# Altium integrated library Maxim Sensors.IntLib: 1171 symbols (part 26 of 61)
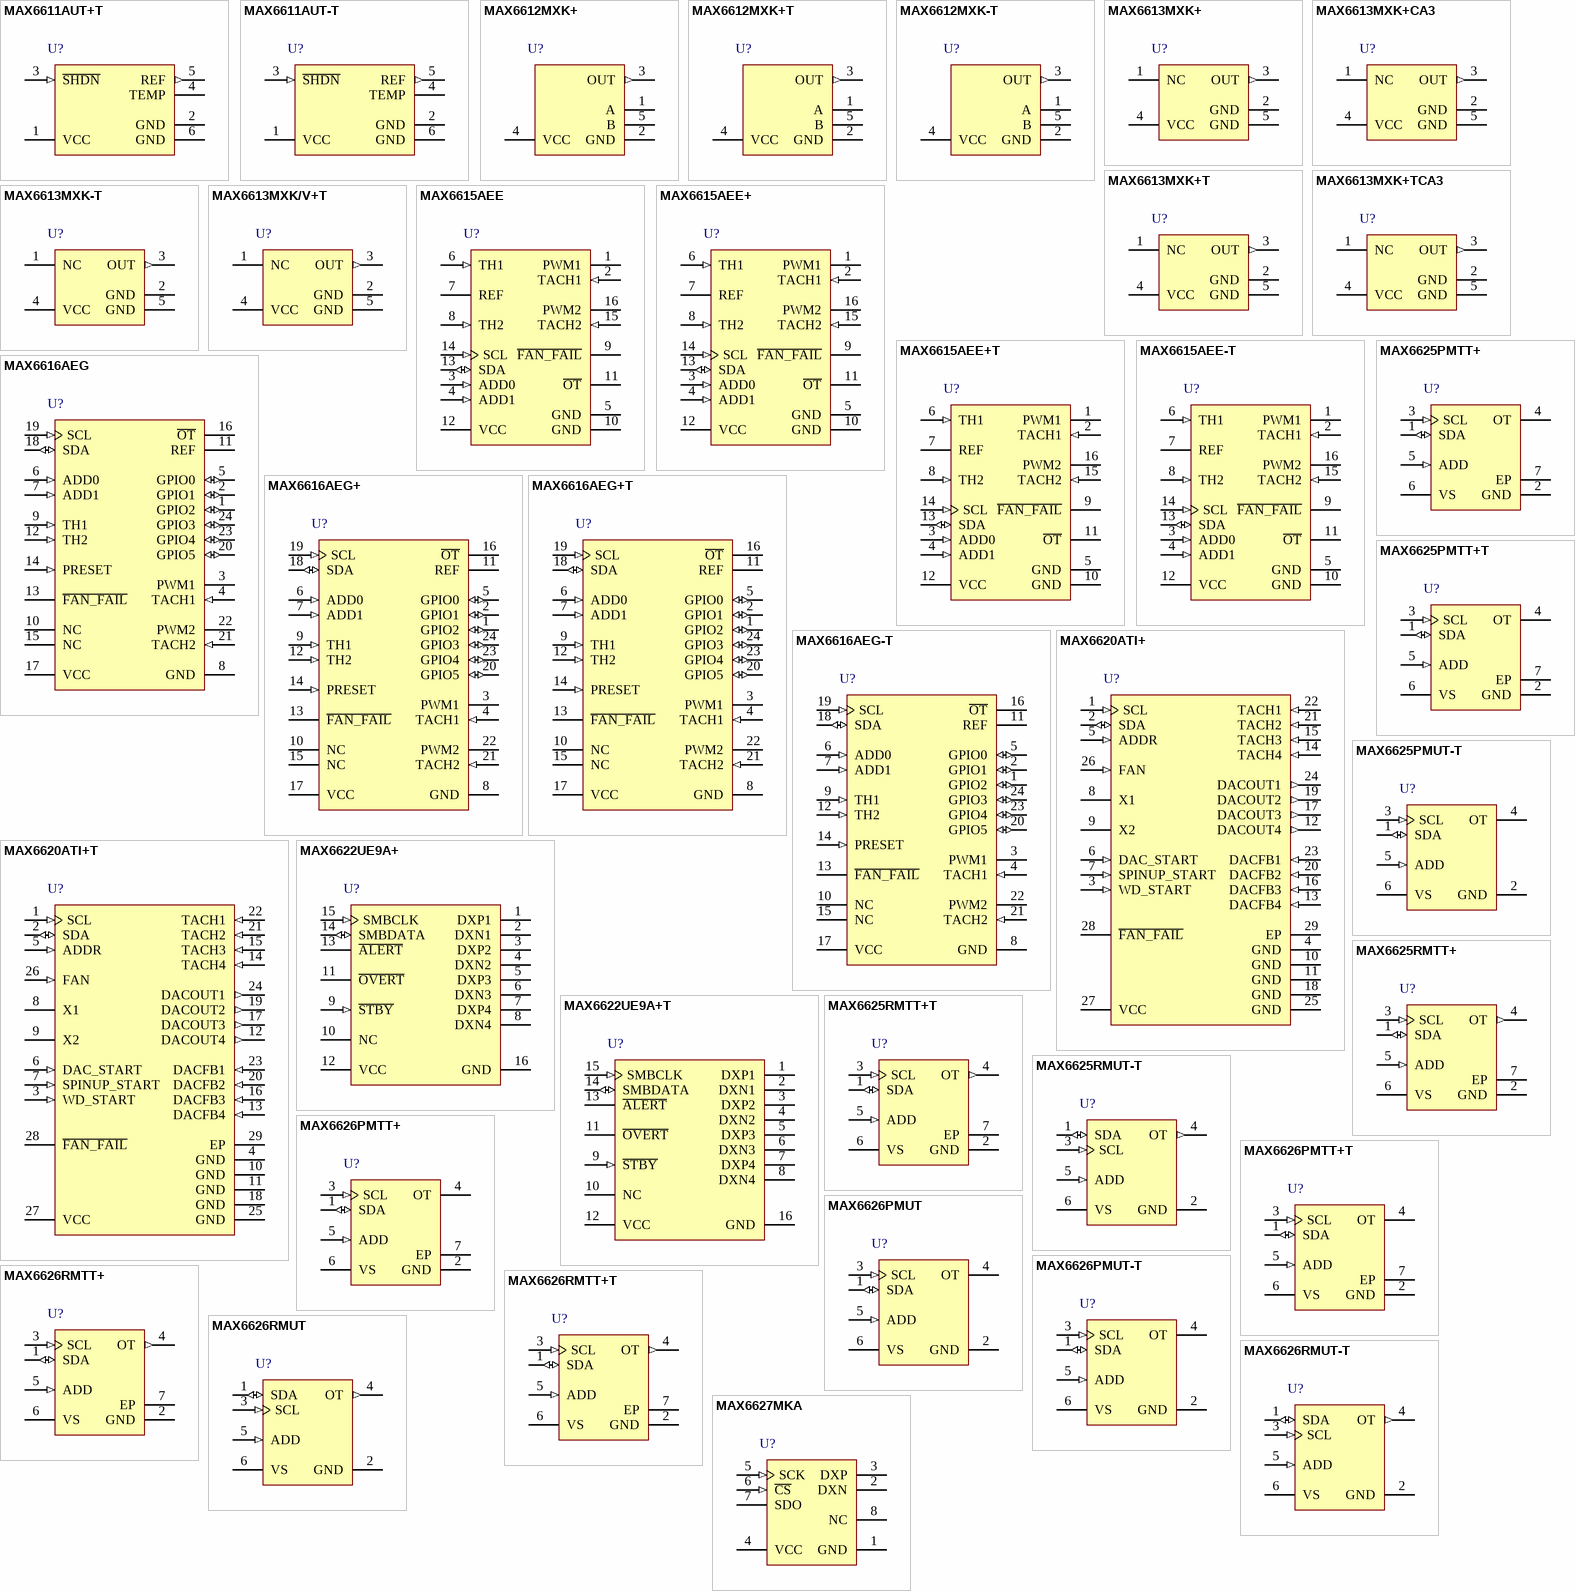
[diagram p58: symbols MAX6611AUT+T to MAX6627MKA]

## MAX6616AEG+
designator U?
Dual-Channel Temperature Monitors and Fan-Speed Controller with Thermistor Inputs and 6 GPIOs, -40 to 125 degC, 24-Pin SOP (E24+1), Pb-Free; Generic Part Number: MAX6616; PartNumber: MAX6616AEG+; Fan Cntrl.: PWM; Fan Controller Functions: Fan Failure Detector; Interface: 2-Wire/I2C/SMBus; DatasheetVersion: Rev. 2; PackageVersion: Rev. K, 04/2012; PackageReference: E24+1; PackageDescription: 24-Pin Quarter Small-Outline Package, Body 3.9 x 8.65 mm, Pitch 0.635 mm; Supplier 1: Digi-Key; Supplier Part Number 1: MAX6616AEG+-ND; Supplier 2: Newark; Supplier Part Number 2: 79R3190; Supplier 3: Mouser; Supplier Part Number 3: 700-MAX6616AEG+; Mounting Technology: Surface Mount; Code_JEDEC: MO-137; ComponentLink1Description: Manufacturer URL; ComponentLink1URL: http://www.maximintegrated.com/; ComponentLink2Description: Datasheet; ComponentLink2URL: http://datasheets.maximintegrated.com/en/ds/MAX6615-MAX6616.pdf; ComponentLink3Description: Package Specification; ComponentLink3URL: http://pdfserv.maximintegrated.com/package_dwgs/21-0055.PDF
footprint MAXM-E24+1_N (SOP, 24-Leads, Body 8.65x3.9mm, Pitch 0.635mm, IPC Medium Density)
footprint MAXM-E24+1_L (SOP, 24-Leads, Body 8.65x3.9mm, Pitch 0.635mm, IPC High Density)
footprint MAXM-E24+1_M (SOP, 24-Leads, Body 8.65x3.9mm, Pitch 0.635mm, IPC Low Density)
pins: 1 GPIO2 (io) "Active-Low, Open-Drain GPIOs. Can be pulled up to 5.5V regardless of VCC.", 2 GPIO1 (io) "Active-Low, Open-Drain GPIOs. Can be pulled up to 5.5V regardless of VCC.", 3 PWM1 (oc) "Fan Driver Output 1. The pullup resistor can be connected to a supply voltage as high as 12V, regardless of the supply voltage. See the PWM Output section for configuration.", 4 TACH1 (in) "Fan Tachometer Input. Accepts logic-level signal from fan’s tachometer output. Can be connected to a supply voltage as high as 12V, regardless of the supply voltage.", 5 GPIO0 (io) "Active-Low, Open-Drain GPIOs. Can be pulled up to 5.5V regardless of VCC.", 6 ADD0 (in) "SMBus Slave Address Selection", 7 ADD1 (in) "SMBus Slave Address Selection", 8 GND (power) "Ground.", 9 TH1 (in) "External Thermistor Input 1. Connect a thermistor in series with a fixed resistor between REF and ground.", 10 NC "No Connection", 11 REF (hiz) "Reference Voltage Output. Provides 1V during measurements. High impedance when not measuring.", 12 TH2 (in) "External Thermistor Input 2. Connect a thermistor in series with a fixed resistor between REF and ground.", 13 ~{FAN_FAIL} (hiz) "Fan-Failure Output. Asserts low when either fan fails. Can be pulled up as high as 5.5V regardless of VCC. High impedance when VCC = 0V.", 14 PRESET (in) "Connect to GND or VCC to set POR state of the GPIO0.", 15 NC "No Connection", 16 ~{OT} (hiz) "Overtemperature Output. Active low, open drain. Typically used for system shutdown or clock throttling. Can be pulled up as high as 5.5V regardless of VCC. High impedance when VCC = 0V.", 17 VCC (power) "Power Supply. 3.3V nominal. Bypass with a 0.1uF capacitor to GND.", 18 SDA (io) "SMBus Serial-Data Input/Output. Pull up with a 10k ohm resistor. Can be pulled up as high as 5.5V regardless of VCC. High impedance when VCC = 0V.", 19 SCL (in) "SMBus Serial-Clock Input. Pull up with a 10k ohm resistor. Can be pulled up as high as 5.5V regardless of VCC. High impedance when VCC = 0V.", 20 GPIO5 (io) "Active-Low, Open-Drain GPIOs. Can be pulled up to 5.5V regardless of VCC.", 21 TACH2 (in) "Fan Tachometer Input. Accepts logic-level signal from fan’s tachometer output. Can be connected to a supply voltage as high as 12V, regardless of the supply voltage.", 22 PWM2 (oc) "Fan Driver Output 2. The pullup resistor can be connected to a supply voltage as high as 12V, regardless of the supply voltage. See the PWM Output section for configuration.", 23 GPIO4 (io) "Active-Low, Open-Drain GPIOs. Can be pulled up to 5.5V regardless of VCC.", 24 GPIO3 (io) "Active-Low, Open-Drain GPIOs. Can be pulled up to 5.5V regardless of VCC."

## MAX6616AEG+T
designator U?
Dual-Channel Temperature Monitors and Fan-Speed Controller with Thermistor Inputs and 6 GPIOs, -40 to 125 degC, 24-Pin SOP (E24+1), Pb-Free, Tape and Reel; Generic Part Number: MAX6616; PartNumber: MAX6616AEG+T; Fan Cntrl.: PWM; Fan Controller Functions: Fan Failure Detector; Interface: 2-Wire/I2C/SMBus; DatasheetVersion: Rev. 2; PackageVersion: Rev. K, 04/2012; PackageReference: E24+1; PackageDescription: 24-Pin Quarter Small-Outline Package, Body 3.9 x 8.65 mm, Pitch 0.635 mm; Supplier 1: Digi-Key; Supplier Part Number 1: MAX6616AEG+T-ND; Supplier 2: Mouser; Supplier Part Number 2: 700-MAX6616AEG+T; Packing: Tape and Reel; Mounting Technology: Surface Mount; Code_JEDEC: MO-137; ComponentLink1Description: Manufacturer URL; ComponentLink1URL: http://www.maximintegrated.com/; ComponentLink2Description: Datasheet; ComponentLink2URL: http://datasheets.maximintegrated.com/en/ds/MAX6615-MAX6616.pdf; ComponentLink3Description: Package Specification; ComponentLink3URL: http://pdfserv.maximintegrated.com/package_dwgs/21-0055.PDF
footprint MAXM-E24+1_N (SOP, 24-Leads, Body 8.65x3.9mm, Pitch 0.635mm, IPC Medium Density)
footprint MAXM-E24+1_L (SOP, 24-Leads, Body 8.65x3.9mm, Pitch 0.635mm, IPC High Density)
footprint MAXM-E24+1_M (SOP, 24-Leads, Body 8.65x3.9mm, Pitch 0.635mm, IPC Low Density)
pins: 1 GPIO2 (io) "Active-Low, Open-Drain GPIOs. Can be pulled up to 5.5V regardless of VCC.", 2 GPIO1 (io) "Active-Low, Open-Drain GPIOs. Can be pulled up to 5.5V regardless of VCC.", 3 PWM1 (oc) "Fan Driver Output 1. The pullup resistor can be connected to a supply voltage as high as 12V, regardless of the supply voltage. See the PWM Output section for configuration.", 4 TACH1 (in) "Fan Tachometer Input. Accepts logic-level signal from fan’s tachometer output. Can be connected to a supply voltage as high as 12V, regardless of the supply voltage.", 5 GPIO0 (io) "Active-Low, Open-Drain GPIOs. Can be pulled up to 5.5V regardless of VCC.", 6 ADD0 (in) "SMBus Slave Address Selection", 7 ADD1 (in) "SMBus Slave Address Selection", 8 GND (power) "Ground.", 9 TH1 (in) "External Thermistor Input 1. Connect a thermistor in series with a fixed resistor between REF and ground.", 10 NC "No Connection", 11 REF (hiz) "Reference Voltage Output. Provides 1V during measurements. High impedance when not measuring.", 12 TH2 (in) "External Thermistor Input 2. Connect a thermistor in series with a fixed resistor between REF and ground.", 13 ~{FAN_FAIL} (hiz) "Fan-Failure Output. Asserts low when either fan fails. Can be pulled up as high as 5.5V regardless of VCC. High impedance when VCC = 0V.", 14 PRESET (in) "Connect to GND or VCC to set POR state of the GPIO0.", 15 NC "No Connection", 16 ~{OT} (hiz) "Overtemperature Output. Active low, open drain. Typically used for system shutdown or clock throttling. Can be pulled up as high as 5.5V regardless of VCC. High impedance when VCC = 0V.", 17 VCC (power) "Power Supply. 3.3V nominal. Bypass with a 0.1uF capacitor to GND.", 18 SDA (io) "SMBus Serial-Data Input/Output. Pull up with a 10k ohm resistor. Can be pulled up as high as 5.5V regardless of VCC. High impedance when VCC = 0V.", 19 SCL (in) "SMBus Serial-Clock Input. Pull up with a 10k ohm resistor. Can be pulled up as high as 5.5V regardless of VCC. High impedance when VCC = 0V.", 20 GPIO5 (io) "Active-Low, Open-Drain GPIOs. Can be pulled up to 5.5V regardless of VCC.", 21 TACH2 (in) "Fan Tachometer Input. Accepts logic-level signal from fan’s tachometer output. Can be connected to a supply voltage as high as 12V, regardless of the supply voltage.", 22 PWM2 (oc) "Fan Driver Output 2. The pullup resistor can be connected to a supply voltage as high as 12V, regardless of the supply voltage. See the PWM Output section for configuration.", 23 GPIO4 (io) "Active-Low, Open-Drain GPIOs. Can be pulled up to 5.5V regardless of VCC.", 24 GPIO3 (io) "Active-Low, Open-Drain GPIOs. Can be pulled up to 5.5V regardless of VCC."

## MAX6616AEG-T
designator U?
Dual-Channel Temperature Monitors and Fan-Speed Controller with Thermistor Inputs and 6 GPIOs, -40 to 125 degC, 24-Pin SOP (E24-1), Tape and Reel; Generic Part Number: MAX6616; PartNumber: MAX6616AEG-T; Fan Cntrl.: PWM; Fan Controller Functions: Fan Failure Detector; Interface: 2-Wire/I2C/SMBus; DatasheetVersion: Rev. 2; PackageVersion: Rev. K, 04/2012; PackageReference: E24-1; PackageDescription: 24-Pin Quarter Small-Outline Package, Body 3.9 x 8.65 mm, Pitch 0.635 mm; Supplier 1: Digi-Key; Supplier Part Number 1: MAX6616AEG-T-ND; Supplier 2: Mouser; Supplier Part Number 2: 700-MAX6616AEG-T-; Packing: Tape and Reel; Mounting Technology: Surface Mount; Code_JEDEC: MO-137; ComponentLink1Description: Manufacturer URL; ComponentLink1URL: http://www.maximintegrated.com/; ComponentLink2Description: Datasheet; ComponentLink2URL: http://datasheets.maximintegrated.com/en/ds/MAX6615-MAX6616.pdf; ComponentLink3Description: Package Specification; ComponentLink3URL: http://pdfserv.maximintegrated.com/package_dwgs/21-0055.PDF
footprint MAXM-E24-1_N (SOP, 24-Leads, Body 8.65x3.9mm, Pitch 0.635mm, IPC Medium Density)
footprint MAXM-E24-1_L (SOP, 24-Leads, Body 8.65x3.9mm, Pitch 0.635mm, IPC High Density)
footprint MAXM-E24-1_M (SOP, 24-Leads, Body 8.65x3.9mm, Pitch 0.635mm, IPC Low Density)
pins: 1 GPIO2 (io) "Active-Low, Open-Drain GPIOs. Can be pulled up to 5.5V regardless of VCC.", 2 GPIO1 (io) "Active-Low, Open-Drain GPIOs. Can be pulled up to 5.5V regardless of VCC.", 3 PWM1 (oc) "Fan Driver Output 1. The pullup resistor can be connected to a supply voltage as high as 12V, regardless of the supply voltage. See the PWM Output section for configuration.", 4 TACH1 (in) "Fan Tachometer Input. Accepts logic-level signal from fan’s tachometer output. Can be connected to a supply voltage as high as 12V, regardless of the supply voltage.", 5 GPIO0 (io) "Active-Low, Open-Drain GPIOs. Can be pulled up to 5.5V regardless of VCC.", 6 ADD0 (in) "SMBus Slave Address Selection", 7 ADD1 (in) "SMBus Slave Address Selection", 8 GND (power) "Ground.", 9 TH1 (in) "External Thermistor Input 1. Connect a thermistor in series with a fixed resistor between REF and ground.", 10 NC "No Connection", 11 REF (hiz) "Reference Voltage Output. Provides 1V during measurements. High impedance when not measuring.", 12 TH2 (in) "External Thermistor Input 2. Connect a thermistor in series with a fixed resistor between REF and ground.", 13 ~{FAN_FAIL} (hiz) "Fan-Failure Output. Asserts low when either fan fails. Can be pulled up as high as 5.5V regardless of VCC. High impedance when VCC = 0V.", 14 PRESET (in) "Connect to GND or VCC to set POR state of the GPIO0.", 15 NC "No Connection", 16 ~{OT} (hiz) "Overtemperature Output. Active low, open drain. Typically used for system shutdown or clock throttling. Can be pulled up as high as 5.5V regardless of VCC. High impedance when VCC = 0V.", 17 VCC (power) "Power Supply. 3.3V nominal. Bypass with a 0.1uF capacitor to GND.", 18 SDA (io) "SMBus Serial-Data Input/Output. Pull up with a 10k ohm resistor. Can be pulled up as high as 5.5V regardless of VCC. High impedance when VCC = 0V.", 19 SCL (in) "SMBus Serial-Clock Input. Pull up with a 10k ohm resistor. Can be pulled up as high as 5.5V regardless of VCC. High impedance when VCC = 0V.", 20 GPIO5 (io) "Active-Low, Open-Drain GPIOs. Can be pulled up to 5.5V regardless of VCC.", 21 TACH2 (in) "Fan Tachometer Input. Accepts logic-level signal from fan’s tachometer output. Can be connected to a supply voltage as high as 12V, regardless of the supply voltage.", 22 PWM2 (oc) "Fan Driver Output 2. The pullup resistor can be connected to a supply voltage as high as 12V, regardless of the supply voltage. See the PWM Output section for configuration.", 23 GPIO4 (io) "Active-Low, Open-Drain GPIOs. Can be pulled up to 5.5V regardless of VCC.", 24 GPIO3 (io) "Active-Low, Open-Drain GPIOs. Can be pulled up to 5.5V regardless of VCC."

## MAX6620ATI+
designator U?
4-Channel Linear Fan-Speed Controller, -40 to 125 degC, 28-Pin QFN (T2855+8), Pb-Free; Generic Part Number: MAX6620; PartNumber: MAX6620ATI+; Fan Controller Functions: Fan Failure Detector; Interface: 2-Wire/I2C/SMBus; DatasheetVersion: Rev. 0; PackageVersion: Rev. Q, 09/2011; PackageReference: T2855+8; PackageDescription: 28-Pin Thin Quad Flatpack, No Leads, Body 5 x 5 mm, Pitch 0.5 mm; Supplier 1: Digi-Key; Supplier Part Number 1: MAX6620ATI+-ND; Supplier 2: Mouser; Supplier Part Number 2: 700-MAX6620ATI; Fan Cntrl.: Linear; Mounting Technology: Surface Mount; Code_JEDEC: MO-220; ComponentLink1Description: Manufacturer URL; ComponentLink1URL: http://www.maximintegrated.com/; ComponentLink2Description: Datasheet; ComponentLink2URL: http://datasheets.maximintegrated.com/en/ds/MAX6620.pdf; ComponentLink3Description: Package Specification; ComponentLink3URL: http://pdfserv.maximintegrated.com/package_dwgs/21-0140.PDF
footprint MAXM-T2855+8_N (QFN, 28-Leads, Body 5x5mm, Pitch 0.5mm, Thermal Pad 3.25x3.25mm, IPC Medium Density)
footprint MAXM-T2855+8_L (QFN, 28-Leads, Body 5x5mm, Pitch 0.5mm, Thermal Pad 3.25x3.25mm, IPC High Density)
footprint MAXM-T2855+8_M (QFN, 28-Leads, Body 5x5mm, Pitch 0.5mm, Thermal Pad 3.25x3.25mm, IPC Low Density)
pins: 1 SCL (in) "I2C Serial-Clock Input. Can be pulled up to 5.5V regardless of VCC. Open circuit when VCC = 0V.", 2 SDA (io) "Open-Drain, I2C Serial-Data Input/Output. Can be pulled up to 5.5V regardless of VCC. Open circuit when VCC = 0V.", 3 WD_START (in) "Startup Watchdog Set Input. This input is sampled when power is first applied and sets the initial I2C watchdog behavior. When connected to GND, the watchdog function is disabled. When connected to VCC, the MAX6620 monitors (See Datasheet)", 4 GND (power) "Ground", 5 ADDR (in) "I2C Address Set Input. This input is sampled when power is first applied and sets the I2C slave address. When connected to GND, the slave address will be 0x50. When unconnected, the slave address will be 0x52. When connected (See Datasheet)", 6 DAC_START (in) "Startup Fan Drive DAC Set Input. This input is sampled when power is first applied and sets the power-up value for the fan drive voltage. When connected to GND, the fan drive voltage will be 0%. When unconnected, the fan (See Datasheet)", 7 SPINUP_START (in) "Startup Spin-Up Set Input. This input is sampled when power is first applied and sets the initial spin-up behavior. When connected to GND, spin-up is disabled. When connected to VCC at power-up, the fan is driven with a (See Datasheet)", 8 X1 "Crystal Oscillator Inputs. Connections for a standard 32.768kHz quartz crystal. The internal oscillator circuitry is designed for operation with a crystal having a specified load capacitance (CL) of 12pF. Connect an external (See Datasheet)", 9 X2 "Crystal Oscillator Inputs. Connections for a standard 32.768kHz quartz crystal. The internal oscillator circuitry is designed for operation with a crystal having a specified load capacitance (CL) of 12pF. Connect an external (See Datasheet)", 10 GND (power) "Ground", 11 GND (power) "Ground", 12 DACOUT4 (out) "Fan Drive DAC Outputs. Connect to the gate of a p-channel MOSFET or base of a PNP bipolar transistor.", 13 DACFB4 (in) "DAC Feedback Inputs. Connect a 0.1µF capacitor  between these pins and GND. Connect to the supply pin of the fan and to the drain of a p-channel MOSFET or collector of a PNP bipolar transistor.", 14 TACH4 (in) "Fan Tachometer Logic Inputs. These inputs accept input voltages up to VFAN.", 15 TACH3 (in) "Fan Tachometer Logic Inputs. These inputs accept input voltages up to VFAN.", 16 DACFB3 (in) "DAC Feedback Inputs. Connect a 0.1µF capacitor  between these pins and GND. Connect to the supply pin of the fan and to the drain of a p-channel MOSFET or collector of a PNP bipolar transistor.", 17 DACOUT3 (out) "Fan Drive DAC Outputs. Connect to the gate of a p-channel MOSFET or base of a PNP bipolar transistor.", 18 GND (power) "Ground", 19 DACOUT2 (out) "Fan Drive DAC Outputs. Connect to the gate of a p-channel MOSFET or base of a PNP bipolar transistor.", 20 DACFB2 (in) "DAC Feedback Inputs. Connect a 0.1µF capacitor  between these pins and GND. Connect to the supply pin of the fan and to the drain of a p-channel MOSFET or collector of a PNP bipolar transistor.", 21 TACH2 (in) "Fan Tachometer Logic Inputs. These inputs accept input voltages up to VFAN.", 22 TACH1 (in) "Fan Tachometer Logic Inputs. These inputs accept input voltages up to VFAN.", 23 DACFB1 (in) "DAC Feedback Inputs. Connect a 0.1µF capacitor  between these pins and GND. Connect to the supply pin of the fan and to the drain of a p-channel MOSFET or collector of a PNP bipolar transistor.", 24 DACOUT1 (out) "Fan Drive DAC Outputs. Connect to the gate of a p-channel MOSFET or base of a PNP bipolar transistor.", 25 GND (power) "Ground", 26 FAN (in) "Fan Power-Supply Voltage Input. Connect to the fan power supply (VFAN). Bypass with a 0.1µF capacitor to GND", 27 VCC (power) "Power-Supply Input. 3.3V nominal. Bypass VCC to GND with a 0.1µF capacitor.", 28 ~{FAN_FAIL} (oc) "Active-Low, Open-Drain Fan Failure Output. Active only when fault is present; open-circuit when VCC = 0V. This pin can be pulled up to 5.5V regardless of VCC", 29 EP (power) "Exposed Paddle. Internally connected to GND. Connect to a large ground plane to maximize thermal performance. Not intended as an electrical connection point."

## MAX6620ATI+T
designator U?
4-Channel Linear Fan-Speed Controller, -40 to 125 degC, 28-Pin QFN (T2855+8), Pb-Free, Tape and Reel; Generic Part Number: MAX6620; PartNumber: MAX6620ATI+T; Fan Controller Functions: Fan Failure Detector; Interface: 2-Wire/I2C/SMBus; DatasheetVersion: Rev. 0; PackageVersion: Rev. Q, 09/2011; PackageReference: T2855+8; PackageDescription: 28-Pin Thin Quad Flatpack, No Leads, Body 5 x 5 mm, Pitch 0.5 mm; Supplier 1: Digi-Key; Supplier Part Number 1: MAX6620ATI+T-ND; Supplier 2: Mouser; Supplier Part Number 2: 700-MAX6620ATIT; Fan Cntrl.: Linear; Packing: Tape and Reel; Mounting Technology: Surface Mount; Code_JEDEC: MO-220; ComponentLink1Description: Manufacturer URL; ComponentLink1URL: http://www.maximintegrated.com/; ComponentLink2Description: Datasheet; ComponentLink2URL: http://datasheets.maximintegrated.com/en/ds/MAX6620.pdf; ComponentLink3Description: Package Specification; ComponentLink3URL: http://pdfserv.maximintegrated.com/package_dwgs/21-0140.PDF
footprint MAXM-T2855+8_N (QFN, 28-Leads, Body 5x5mm, Pitch 0.5mm, Thermal Pad 3.25x3.25mm, IPC Medium Density)
footprint MAXM-T2855+8_L (QFN, 28-Leads, Body 5x5mm, Pitch 0.5mm, Thermal Pad 3.25x3.25mm, IPC High Density)
footprint MAXM-T2855+8_M (QFN, 28-Leads, Body 5x5mm, Pitch 0.5mm, Thermal Pad 3.25x3.25mm, IPC Low Density)
pins: 1 SCL (in) "I2C Serial-Clock Input. Can be pulled up to 5.5V regardless of VCC. Open circuit when VCC = 0V.", 2 SDA (io) "Open-Drain, I2C Serial-Data Input/Output. Can be pulled up to 5.5V regardless of VCC. Open circuit when VCC = 0V.", 3 WD_START (in) "Startup Watchdog Set Input. This input is sampled when power is first applied and sets the initial I2C watchdog behavior. When connected to GND, the watchdog function is disabled. When connected to VCC, the MAX6620 monitors (See Datasheet)", 4 GND (power) "Ground", 5 ADDR (in) "I2C Address Set Input. This input is sampled when power is first applied and sets the I2C slave address. When connected to GND, the slave address will be 0x50. When unconnected, the slave address will be 0x52. When connected (See Datasheet)", 6 DAC_START (in) "Startup Fan Drive DAC Set Input. This input is sampled when power is first applied and sets the power-up value for the fan drive voltage. When connected to GND, the fan drive voltage will be 0%. When unconnected, the fan (See Datasheet)", 7 SPINUP_START (in) "Startup Spin-Up Set Input. This input is sampled when power is first applied and sets the initial spin-up behavior. When connected to GND, spin-up is disabled. When connected to VCC at power-up, the fan is driven with a (See Datasheet)", 8 X1 "Crystal Oscillator Inputs. Connections for a standard 32.768kHz quartz crystal. The internal oscillator circuitry is designed for operation with a crystal having a specified load capacitance (CL) of 12pF. Connect an external (See Datasheet)", 9 X2 "Crystal Oscillator Inputs. Connections for a standard 32.768kHz quartz crystal. The internal oscillator circuitry is designed for operation with a crystal having a specified load capacitance (CL) of 12pF. Connect an external (See Datasheet)", 10 GND (power) "Ground", 11 GND (power) "Ground", 12 DACOUT4 (out) "Fan Drive DAC Outputs. Connect to the gate of a p-channel MOSFET or base of a PNP bipolar transistor.", 13 DACFB4 (in) "DAC Feedback Inputs. Connect a 0.1µF capacitor  between these pins and GND. Connect to the supply pin of the fan and to the drain of a p-channel MOSFET or collector of a PNP bipolar transistor.", 14 TACH4 (in) "Fan Tachometer Logic Inputs. These inputs accept input voltages up to VFAN.", 15 TACH3 (in) "Fan Tachometer Logic Inputs. These inputs accept input voltages up to VFAN.", 16 DACFB3 (in) "DAC Feedback Inputs. Connect a 0.1µF capacitor  between these pins and GND. Connect to the supply pin of the fan and to the drain of a p-channel MOSFET or collector of a PNP bipolar transistor.", 17 DACOUT3 (out) "Fan Drive DAC Outputs. Connect to the gate of a p-channel MOSFET or base of a PNP bipolar transistor.", 18 GND (power) "Ground", 19 DACOUT2 (out) "Fan Drive DAC Outputs. Connect to the gate of a p-channel MOSFET or base of a PNP bipolar transistor.", 20 DACFB2 (in) "DAC Feedback Inputs. Connect a 0.1µF capacitor  between these pins and GND. Connect to the supply pin of the fan and to the drain of a p-channel MOSFET or collector of a PNP bipolar transistor.", 21 TACH2 (in) "Fan Tachometer Logic Inputs. These inputs accept input voltages up to VFAN.", 22 TACH1 (in) "Fan Tachometer Logic Inputs. These inputs accept input voltages up to VFAN.", 23 DACFB1 (in) "DAC Feedback Inputs. Connect a 0.1µF capacitor  between these pins and GND. Connect to the supply pin of the fan and to the drain of a p-channel MOSFET or collector of a PNP bipolar transistor.", 24 DACOUT1 (out) "Fan Drive DAC Outputs. Connect to the gate of a p-channel MOSFET or base of a PNP bipolar transistor.", 25 GND (power) "Ground", 26 FAN (in) "Fan Power-Supply Voltage Input. Connect to the fan power supply (VFAN). Bypass with a 0.1µF capacitor to GND", 27 VCC (power) "Power-Supply Input. 3.3V nominal. Bypass VCC to GND with a 0.1µF capacitor.", 28 ~{FAN_FAIL} (oc) "Active-Low, Open-Drain Fan Failure Output. Active only when fault is present; open-circuit when VCC = 0V. This pin can be pulled up to 5.5V regardless of VCC", 29 EP (power) "Exposed Paddle. Internally connected to GND. Connect to a large ground plane to maximize thermal performance. Not intended as an electrical connection point."

## MAX6622UE9A+
designator U?
5-Channel Precision Temperature Monitor, 8, 11 Bits Temperature Resolution, -40 to 125 degC, 16-Pin SOP (U16+1), Pb-Free; Generic Part Number: MAX6622; PartNumber: MAX6622UE9A+; Alarm Output: Alert, Overt; Functions: Dual Temperature Alarms, Multi-Channel Temperature Monitor ,Remote & Local Sensor; Interface: 2-Wire/I2C/SMBus; Parasite Pwr.: No; DatasheetVersion: Rev. 0; PackageVersion: Rev. L, 07/2010; PackageReference: U16+1; PackageDescription: 16-Pin Thin Shrink Small-Outline Package (U16+1), Body 5 x 4.4 mm, Pitch 0.65 mm; Supplier 1: Digi-Key; Supplier Part Number 1: MAX6622UE9A+-ND; Supplier 2: Mouser; Supplier Part Number 2: 700-MAX6622UE9A; Mounting Technology: Surface Mount; Code_JEDEC: MO-153; ComponentLink1Description: Manufacturer URL; ComponentLink1URL: http://www.maximintegrated.com/; ComponentLink2Description: Datasheet; ComponentLink2URL: http://datasheets.maximintegrated.com/en/ds/MAX6622.pdf; ComponentLink3Description: Package Specification; ComponentLink3URL: http://pdfserv.maximintegrated.com/package_dwgs/21-0066.PDF
footprint MAXM-U16+1_N (SOP, 16-Leads, Body 5x4.4mm, Pitch 0.65mm, IPC Medium Density)
footprint MAXM-U16+1_L (SOP, 16-Leads, Body 5x4.4mm, Pitch 0.65mm, IPC High Density)
footprint MAXM-U16+1_M (SOP, 16-Leads, Body 5x4.4mm, Pitch 0.65mm, IPC Low Density)
pins: 1 DXP1 "Combined Current Source and A/D Positive Input for Channel 1 Remote Diode. Connect to the anode of a remote-diode-connected temperature-sensing transistor. Leave unconnected or connect to VCC if no remote diode is used. (See Datasheet)", 2 DXN1 "Cathode Input for Channel 1 Remote Diode. Connect the cathode of the channel 1 remote-diode-connected transistor to DXN1. Internally connected to GND.", 3 DXP2 "Combined Current Source and A/D Positive Input for Channel 2 Remote Diode. Connect to the anode of a remote-diode-connected temperature-sensing transistor. Leave unconnected or connect to VCC if no remote diode is used. (See Datasheet)", 4 DXN2 "Cathode Input for Channel 2 Remote Diode. Connect the cathode of the channel 2 remote-diode-connected transistor to DXN2.", 5 DXP3 "Combined Current Source and A/D Positive Input for Channel 3 Remote Diode. Connect to the anode of a remote-diode-connected temperature-sensing transistor. Leave unconnected or connect to VCC if no remote diode is used. (See Datasheet)", 6 DXN3 "Cathode Input for Channel 3 Remote Diode. Connect the cathode of the channel 3 remote-diode-connected transistor to DXN3.", 7 DXP4 "Combined Current Source and A/D Positive Input for Channel 4 Remote Diode. Connect to the anode of a remote-diode-connected temperature-sensing transistor. Leave unconnected or connect to VCC if no remote diode is used. (See Datasheet)", 8 DXN4 "Cathode Input for Channel 4 Remote Diode. Connect the cathode of the channel 4 remote-diode-connected transistor to DXN4.", 9 ~{STBY} (in) "Standby Input. Drive S\T\B\Y\ logic-low to place the MAX6622 in hardware standby mode, or logic-high for normal operation. Temperature and threshold data are retained in standby mode.", 10 NC "No Connection. Must be connected to ground.", 11 ~{OVERT} (oc) "Overtemperature Active-Low, Open-Drain Output. O\V\E\R\T\ asserts low when the temperature of channels 1 and 4 exceed the programmed threshold limit.", 12 VCC (power) "Supply Voltage Input. Bypass to GND with a 0.1uF capacitor.", 13 ~{ALERT} (oc) "SMBus Alert (Interrupt), Active-Low, Open-Drain Output. A\L\E\R\T\ asserts low when the temperature of any channel exceeds the programmed A\L\E\R\T\ threshold.", 14 SMBDATA (io) "SMBus Serial-Data Input/Output. Connect to a pullup resistor.", 15 SMBCLK (in) "SMBus Serial-Clock Input. Connect to a pullup resistor.", 16 GND (power) "Ground"

## MAX6622UE9A+T
designator U?
5-Channel Precision Temperature Monitor, 8, 11 Bits Temperature Resolution, -40 to 125 degC, 16-Pin SOP (U16+1), Pb-Free, Tape and Reel; Generic Part Number: MAX6622; PartNumber: MAX6622UE9A+T; Alarm Output: Alert, Overt; Functions: Dual Temperature Alarms, Multi-Channel Temperature Monitor, Remote & Local Sensor; Interface: 2-Wire/I2C/SMBus; Parasite Pwr.: No; DatasheetVersion: Rev. 0; PackageVersion: Rev. L, 07/2010; PackageReference: U16+1; PackageDescription: 16-Pin Thin Shrink Small-Outline Package (U16+1), Body 5 x 4.4 mm, Pitch 0.65 mm; Supplier 1: Digi-Key; Supplier Part Number 1: MAX6622UE9A+T-ND; Supplier 2: Mouser; Supplier Part Number 2: 700-MAX6622UE9AT; Packing: Tape and Reel; Mounting Technology: Surface Mount; Code_JEDEC: MO-153; ComponentLink1Description: Manufacturer URL; ComponentLink1URL: http://www.maximintegrated.com/; ComponentLink2Description: Datasheet; ComponentLink2URL: http://datasheets.maximintegrated.com/en/ds/MAX6622.pdf; ComponentLink3Description: Package Specification; ComponentLink3URL: http://pdfserv.maximintegrated.com/package_dwgs/21-0066.PDF
footprint MAXM-U16+1_N (SOP, 16-Leads, Body 5x4.4mm, Pitch 0.65mm, IPC Medium Density)
footprint MAXM-U16+1_L (SOP, 16-Leads, Body 5x4.4mm, Pitch 0.65mm, IPC High Density)
footprint MAXM-U16+1_M (SOP, 16-Leads, Body 5x4.4mm, Pitch 0.65mm, IPC Low Density)
pins: 1 DXP1 "Combined Current Source and A/D Positive Input for Channel 1 Remote Diode. Connect to the anode of a remote-diode-connected temperature-sensing transistor. Leave unconnected or connect to VCC if no remote diode is used. (See Datasheet)", 2 DXN1 "Cathode Input for Channel 1 Remote Diode. Connect the cathode of the channel 1 remote-diode-connected transistor to DXN1. Internally connected to GND.", 3 DXP2 "Combined Current Source and A/D Positive Input for Channel 2 Remote Diode. Connect to the anode of a remote-diode-connected temperature-sensing transistor. Leave unconnected or connect to VCC if no remote diode is used. (See Datasheet)", 4 DXN2 "Cathode Input for Channel 2 Remote Diode. Connect the cathode of the channel 2 remote-diode-connected transistor to DXN2.", 5 DXP3 "Combined Current Source and A/D Positive Input for Channel 3 Remote Diode. Connect to the anode of a remote-diode-connected temperature-sensing transistor. Leave unconnected or connect to VCC if no remote diode is used. (See Datasheet)", 6 DXN3 "Cathode Input for Channel 3 Remote Diode. Connect the cathode of the channel 3 remote-diode-connected transistor to DXN3.", 7 DXP4 "Combined Current Source and A/D Positive Input for Channel 4 Remote Diode. Connect to the anode of a remote-diode-connected temperature-sensing transistor. Leave unconnected or connect to VCC if no remote diode is used. (See Datasheet)", 8 DXN4 "Cathode Input for Channel 4 Remote Diode. Connect the cathode of the channel 4 remote-diode-connected transistor to DXN4.", 9 ~{STBY} (in) "Standby Input. Drive S\T\B\Y\ logic-low to place the MAX6622 in hardware standby mode, or logic-high for normal operation. Temperature and threshold data are retained in standby mode.", 10 NC "No Connection. Must be connected to ground.", 11 ~{OVERT} (oc) "Overtemperature Active-Low, Open-Drain Output. O\V\E\R\T\ asserts low when the temperature of channels 1 and 4 exceed the programmed threshold limit.", 12 VCC (power) "Supply Voltage Input. Bypass to GND with a 0.1uF capacitor.", 13 ~{ALERT} (oc) "SMBus Alert (Interrupt), Active-Low, Open-Drain Output. A\L\E\R\T\ asserts low when the temperature of any channel exceeds the programmed A\L\E\R\T\ threshold.", 14 SMBDATA (io) "SMBus Serial-Data Input/Output. Connect to a pullup resistor.", 15 SMBCLK (in) "SMBus Serial-Clock Input. Connect to a pullup resistor.", 16 GND (power) "Ground"

## MAX6625PMTT+
designator U?
Temperature Sensor with I2C Interface, 9 Bits Temperature Resolution, -55 to 125 degC, 6-Pin SON (T633+2), Pb-Free; Generic Part Number: MAX6625; PartNumber: MAX6625PMTT+; Alarm Output: Overt; Interface: 2-Wire/I2C/SMBus; Multi Droppable: Yes; Parasite Pwr.: No; DatasheetVersion: Rev. 5; PackageVersion: Rev. J, 08/2009; PackageReference: T633+2; PackageDescription: 6-Pin Plastic Very Very Thin Dual Flatpack No Leads, Exposed Pad, Body 3 x 3 mm, Exposed Pad 2.3 x 1.5 mm, Pitch 0.95 mm; Supplier 1: Mouser; Supplier Part Number 1: N/A; Mounting Technology: Surface Mount; Code_JEDEC: MO-229; ComponentLink1Description: Manufacturer URL; ComponentLink1URL: http://www.maximintegrated.com/; ComponentLink2Description: Datasheet; ComponentLink2URL: http://datasheets.maximintegrated.com/en/ds/MAX6625-MAX6626.pdf; ComponentLink3Description: Package Specification; ComponentLink3URL: http://pdfserv.maximintegrated.com/package_dwgs/21-0137.PDF
footprint MAXM-T633+2_V (SON, 6-Leads, Body 3x3mm, Pitch 0.95mm, Thermal Pad 2.3X1.5mm)
pins: 1 SDA (io) "I2C-Compatible Serial Bidirectional Data Line", 2 GND (power) "Power-Supply Ground", 3 SCL (in) "I2C-Compatible Clock Input", 4 OT (oc) "Temperature Alarm Output", 5 ADD (in) "I2C-Compatible Address Set Pin: Ground (0), VS (1), SDA (2), SCL (3); see Table 1.", 6 VS (power) "Power-Supply Input, +3V to +5.5V. Bypass VS to GND with a 0.1µF capacitor", 7 EP (power) "Exposed Paddle. Internally connected to GND. Connect to a large ground plane for maximum thermal dissipation."

## MAX6625PMTT+T
designator U?
Temperature Sensor with I2C Interface, 9 Bits Temperature Resolution, -55 to 125 degC, 6-Pin SON (T633+2), Pb-Free, Tape and Reel; Generic Part Number: MAX6625; PartNumber: MAX6625PMTT+T; Alarm Output: Overt; Interface: 2-Wire/I2C/SMBus; Multi Droppable: Yes; Parasite Pwr.: No; DatasheetVersion: Rev. 5; PackageVersion: Rev. J, 08/2009; PackageReference: T633+2; PackageDescription: 6-Pin Plastic Very Very Thin Dual Flatpack No Leads, Exposed Pad, Body 3 x 3 mm, Exposed Pad 2.3 x 1.5 mm, Pitch 0.95 mm; Supplier 1: Digi-Key; Supplier Part Number 1: MAX6625PMTT+TTR-ND; Supplier 2: Digi-Key; Supplier Part Number 2: MAX6625PMTT+TCT-ND; Supplier 3: Digi-Key; Supplier Part Number 3: MAX6625PMTT+TDKR-ND; Supplier 4: Mouser; Supplier Part Number 4: 700-MAX6625PMTTT; Packing: Tape and Reel; Mounting Technology: Surface Mount; Code_JEDEC: MO-229; ComponentLink1Description: Manufacturer URL; ComponentLink1URL: http://www.maximintegrated.com/; ComponentLink2Description: Datasheet; ComponentLink2URL: http://datasheets.maximintegrated.com/en/ds/MAX6625-MAX6626.pdf; ComponentLink3Description: Package Specification; ComponentLink3URL: http://pdfserv.maximintegrated.com/package_dwgs/21-0137.PDF
footprint MAXM-T633+2_V (SON, 6-Leads, Body 3x3mm, Pitch 0.95mm, Thermal Pad 2.3X1.5mm)
pins: 1 SDA (io) "I2C-Compatible Serial Bidirectional Data Line", 2 GND (power) "Power-Supply Ground", 3 SCL (in) "I2C-Compatible Clock Input", 4 OT (oc) "Temperature Alarm Output", 5 ADD (in) "I2C-Compatible Address Set Pin: Ground (0), VS (1), SDA (2), SCL (3); see Table 1.", 6 VS (power) "Power-Supply Input, +3V to +5.5V. Bypass VS to GND with a 0.1µF capacitor", 7 EP (power) "Exposed Paddle. Internally connected to GND. Connect to a large ground plane for maximum thermal dissipation."

## MAX6625PMUT-T
designator U?
Temperature Sensor with I2C Interface, 9 Bits Temperature Resolution, -55 to 125 degC, 6-Pin SOT23 (U6F-6), Tape and Reel; Generic Part Number: MAX6625; PartNumber: MAX6625PMUT-T; Alarm Output: Overt; Interface: 2-Wire/I2C/SMBus; Multi Droppable: Yes; Parasite Pwr.: No; DatasheetVersion: Rev. 5; PackageVersion: Rev. N, 08/2012; PackageReference: U6F-6; PackageDescription: 6-Pin Small-Outline Transistor Package, Body 1.625 x 2.9 mm, Pitch 0.95 mm; Supplier 1: Mouser; Supplier Part Number 1: N/A; Packing: Tape and Reel; Mounting Technology: Surface Mount; Code_JEDEC: MO-178; ComponentLink1Description: Manufacturer URL; ComponentLink1URL: http://www.maximintegrated.com/; ComponentLink2Description: Datasheet; ComponentLink2URL: http://datasheets.maximintegrated.com/en/ds/MAX6625-MAX6626.pdf; ComponentLink3Description: Package Specification; ComponentLink3URL: http://pdfserv.maximintegrated.com/package_dwgs/21-0058.PDF
footprint MAXM-U6F-6_N (SOT23, 6-Leads, Body 2.9x1.625mm, Pitch 0.95mm, IPC Medium Density)
footprint MAXM-U6F-6_L (SOT23, 6-Leads, Body 2.9x1.625mm, Pitch 0.95mm, IPC High Density)
footprint MAXM-U6F-6_M (SOT23, 6-Leads, Body 2.9x1.625mm, Pitch 0.95mm, IPC Low Density)
pins: 1 SDA (io) "I2C-Compatible Serial Bidirectional Data Line", 2 GND (power) "Power-Supply Ground", 3 SCL (in) "I2C-Compatible Clock Input", 4 OT (oc) "Temperature Alarm Output", 5 ADD (in) "I2C-Compatible Address Set Pin: Ground (0), VS (1), SDA (2), SCL (3); see Table 1.", 6 VS (power) "Power-Supply Input, +3V to +5.5V. Bypass VS to GND with a 0.1µF capacitor"

## MAX6625RMTT+
designator U?
Temperature Sensor with I2C Interface, 9 Bits Temperature Resolution, -55 to 125 degC, 6-Pin SON (T633+2), Pb-Free; Generic Part Number: MAX6625; PartNumber: MAX6625RMTT+; Alarm Output: Overt; Interface: 2-Wire/I2C/SMBus; Multi Droppable: Yes; Parasite Pwr.: No; DatasheetVersion: Rev. 5; PackageVersion: Rev. J, 08/2009; PackageReference: T633+2; PackageDescription: 6-Pin Plastic Very Very Thin Dual Flatpack No Leads, Exposed Pad, Body 3 x 3 mm, Exposed Pad 2.3 x 1.5 mm, Pitch 0.95 mm; Supplier 1: Mouser; Supplier Part Number 1: N/A; Mounting Technology: Surface Mount; Code_JEDEC: MO-229; ComponentLink1Description: Manufacturer URL; ComponentLink1URL: http://www.maximintegrated.com/; ComponentLink2Description: Datasheet; ComponentLink2URL: http://datasheets.maximintegrated.com/en/ds/MAX6625-MAX6626.pdf; ComponentLink3Description: Package Specification; ComponentLink3URL: http://pdfserv.maximintegrated.com/package_dwgs/21-0137.PDF
footprint MAXM-T633+2_V (SON, 6-Leads, Body 3x3mm, Pitch 0.95mm, Thermal Pad 2.3X1.5mm)
pins: 1 SDA (io) "I2C-Compatible Serial Bidirectional Data Line", 2 GND (power) "Power-Supply Ground", 3 SCL (in) "I2C-Compatible Clock Input", 4 OT (out) "Temperature Alarm Output", 5 ADD (in) "I2C-Compatible Address Set Pin: Ground (0), VS (1), SDA (2), SCL (3); see Table 1.", 6 VS (power) "Power-Supply Input, +3V to +5.5V. Bypass VS to GND with a 0.1µF capacitor", 7 EP (power) "Exposed Paddle. Internally connected to GND. Connect to a large ground plane for maximum thermal dissipation."

## MAX6625RMTT+T
designator U?
Temperature Sensor with I2C Interface, 9 Bits Temperature Resolution, -55 to 125 degC, 6-Pin SON (T633+2), Pb-Free, Tape and Reel; Generic Part Number: MAX6625; PartNumber: MAX6625RMTT+T; Alarm Output: Overt; Interface: 2-Wire/I2C/SMBus; Multi Droppable: Yes; Parasite Pwr.: No; DatasheetVersion: Rev. 5; PackageVersion: Rev. J, 08/2009; PackageReference: T633+2; PackageDescription: 6-Pin Plastic Very Very Thin Dual Flatpack No Leads, Exposed Pad, Body 3 x 3 mm, Exposed Pad 2.3 x 1.5 mm, Pitch 0.95 mm; Supplier 1: Digi-Key; Supplier Part Number 1: MAX6625RMTT+TTR-ND; Supplier 2: Digi-Key; Supplier Part Number 2: MAX6625RMTT+TCT-ND; Supplier 3: Digi-Key; Supplier Part Number 3: MAX6625RMTT+TDKR-ND; Supplier 4: Mouser; Supplier Part Number 4: 700-MAX6625RMTTT; Packing: Tape and Reel; Mounting Technology: Surface Mount; Code_JEDEC: MO-229; ComponentLink1Description: Manufacturer URL; ComponentLink1URL: http://www.maximintegrated.com/; ComponentLink2Description: Datasheet; ComponentLink2URL: http://datasheets.maximintegrated.com/en/ds/MAX6625-MAX6626.pdf; ComponentLink3Description: Package Specification; ComponentLink3URL: http://pdfserv.maximintegrated.com/package_dwgs/21-0137.PDF
footprint MAXM-T633+2_V (SON, 6-Leads, Body 3x3mm, Pitch 0.95mm, Thermal Pad 2.3X1.5mm)
pins: 1 SDA (io) "I2C-Compatible Serial Bidirectional Data Line", 2 GND (power) "Power-Supply Ground", 3 SCL (in) "I2C-Compatible Clock Input", 4 OT (out) "Temperature Alarm Output", 5 ADD (in) "I2C-Compatible Address Set Pin: Ground (0), VS (1), SDA (2), SCL (3); see Table 1.", 6 VS (power) "Power-Supply Input, +3V to +5.5V. Bypass VS to GND with a 0.1µF capacitor", 7 EP (power) "Exposed Paddle. Internally connected to GND. Connect to a large ground plane for maximum thermal dissipation."

## MAX6625RMUT-T
designator U?
Temperature Sensor with I2C Interface, 9 Bits Temperature Resolution, -55 to 125 degC, 6-Pin SOT23 (U6F-6), Tape and Reel; Generic Part Number: MAX6625; PartNumber: MAX6625RMUT-T; Alarm Output: Overt; Interface: 2-Wire/I2C/SMBus; Multi Droppable: Yes; Parasite Pwr.: No; DatasheetVersion: Rev. 5; PackageVersion: Rev. N, 08/2012; PackageReference: U6F-6; PackageDescription: 6-Pin Small-Outline Transistor Package, Body 1.625 x 2.9 mm, Pitch 0.95 mm; Supplier 1: Mouser; Supplier Part Number 1: N/A; Packing: Tape and Reel; Mounting Technology: Surface Mount; Code_JEDEC: MO-178; ComponentLink1Description: Manufacturer URL; ComponentLink1URL: http://www.maximintegrated.com/; ComponentLink2Description: Datasheet; ComponentLink2URL: http://datasheets.maximintegrated.com/en/ds/MAX6625-MAX6626.pdf; ComponentLink3Description: Package Specification; ComponentLink3URL: http://pdfserv.maximintegrated.com/package_dwgs/21-0058.PDF
footprint MAXM-U6F-6_N (SOT23, 6-Leads, Body 2.9x1.625mm, Pitch 0.95mm, IPC Medium Density)
footprint MAXM-U6F-6_L (SOT23, 6-Leads, Body 2.9x1.625mm, Pitch 0.95mm, IPC High Density)
footprint MAXM-U6F-6_M (SOT23, 6-Leads, Body 2.9x1.625mm, Pitch 0.95mm, IPC Low Density)
pins: 1 SDA (io) "I2C-Compatible Serial Bidirectional Data Line", 2 GND (power) "Power-Supply Ground", 3 SCL (in) "I2C-Compatible Clock Input", 4 OT (out) "Temperature Alarm Output", 5 ADD (in) "I2C-Compatible Address Set Pin: Ground (0), VS (1), SDA (2), SCL (3); see Table 1.", 6 VS (power) "Power-Supply Input, +3V to +5.5V. Bypass VS to GND with a 0.1µF capacitor"

## MAX6626PMTT+
designator U?
Temperature Sensor with I2C Interface, 12 Bits Temperature Resolution, -55 to 125 degC, 6-Pin SON (T633+2), Pb-Free; Generic Part Number: MAX6626; PartNumber: MAX6626PMTT+; Alarm Output: Overt; Interface: 2-Wire/I2C/SMBus; Multi Droppable: Yes; Parasite Pwr.: No; DatasheetVersion: Rev. 5; PackageVersion: Rev. J, 08/2009; PackageReference: T633+2; PackageDescription: 6-Pin Plastic Very Very Thin Dual Flatpack No Leads, Exposed Pad, Body 3 x 3 mm, Exposed Pad 2.3 x 1.5 mm, Pitch 0.95 mm; Supplier 1: Mouser; Supplier Part Number 1: N/A; Mounting Technology: Surface Mount; Code_JEDEC: MO-229; ComponentLink1Description: Manufacturer URL; ComponentLink1URL: http://www.maximintegrated.com/; ComponentLink2Description: Datasheet; ComponentLink2URL: http://datasheets.maximintegrated.com/en/ds/MAX6625-MAX6626.pdf; ComponentLink3Description: Package Specification; ComponentLink3URL: http://pdfserv.maximintegrated.com/package_dwgs/21-0137.PDF
footprint MAXM-T633+2_V (SON, 6-Leads, Body 3x3mm, Pitch 0.95mm, Thermal Pad 2.3X1.5mm)
pins: 1 SDA (io) "I2C-Compatible Serial Bidirectional Data Line", 2 GND (power) "Power-Supply Ground", 3 SCL (in) "I2C-Compatible Clock Input", 4 OT (oc) "Temperature Alarm Output", 5 ADD (in) "I2C-Compatible Address Set Pin: Ground (0), VS (1), SDA (2), SCL (3); see Table 1.", 6 VS (power) "Power-Supply Input, +3V to +5.5V. Bypass VS to GND with a 0.1µF capacitor", 7 EP (power) "Exposed Paddle. Internally connected to GND. Connect to a large ground plane for maximum thermal dissipation."

## MAX6626PMTT+T
designator U?
Temperature Sensor with I2C Interface, 12 Bits Temperature Resolution, -55 to 125 degC, 6-Pin SON (T633+2), Pb-Free, Tape and Reel; Generic Part Number: MAX6626; PartNumber: MAX6626PMTT+T; Alarm Output: Overt; Interface: 2-Wire/I2C/SMBus; Multi Droppable: Yes; Parasite Pwr.: No; DatasheetVersion: Rev. 5; PackageVersion: Rev. J, 08/2009; PackageReference: T633+2; PackageDescription: 6-Pin Plastic Very Very Thin Dual Flatpack No Leads, Exposed Pad, Body 3 x 3 mm, Exposed Pad 2.3 x 1.5 mm, Pitch 0.95 mm; Supplier 1: Digi-Key; Supplier Part Number 1: MAX6626PMTT+TTR-ND; Supplier 2: Digi-Key; Supplier Part Number 2: MAX6626PMTT+TCT-ND; Supplier 3: Digi-Key; Supplier Part Number 3: MAX6626PMTT+TDKR-ND; Supplier 4: Mouser; Supplier Part Number 4: 700-MAX6626PMTTT; Packing: Tape and Reel; Mounting Technology: Surface Mount; Code_JEDEC: MO-229; ComponentLink1Description: Manufacturer URL; ComponentLink1URL: http://www.maximintegrated.com/; ComponentLink2Description: Datasheet; ComponentLink2URL: http://datasheets.maximintegrated.com/en/ds/MAX6625-MAX6626.pdf; ComponentLink3Description: Package Specification; ComponentLink3URL: http://pdfserv.maximintegrated.com/package_dwgs/21-0137.PDF
footprint MAXM-T633+2_V (SON, 6-Leads, Body 3x3mm, Pitch 0.95mm, Thermal Pad 2.3X1.5mm)
pins: 1 SDA (io) "I2C-Compatible Serial Bidirectional Data Line", 2 GND (power) "Power-Supply Ground", 3 SCL (in) "I2C-Compatible Clock Input", 4 OT (oc) "Temperature Alarm Output", 5 ADD (in) "I2C-Compatible Address Set Pin: Ground (0), VS (1), SDA (2), SCL (3); see Table 1.", 6 VS (power) "Power-Supply Input, +3V to +5.5V. Bypass VS to GND with a 0.1µF capacitor", 7 EP (power) "Exposed Paddle. Internally connected to GND. Connect to a large ground plane for maximum thermal dissipation."

## MAX6626PMUT
designator U?
Temperature Sensor with I2C Interface, 12 Bits Temperature Resolution, -55 to 125 degC, 6-Pin SOT23 (U6F-6); Generic Part Number: MAX6626; PartNumber: MAX6626PMUT; Alarm Output: Overt; Interface: 2-Wire/I2C/SMBus; Multi Droppable: Yes; Parasite Pwr.: No; DatasheetVersion: Rev. 5; PackageVersion: Rev. N, 08/2012; PackageReference: U6F-6; PackageDescription: 6-Pin Small-Outline Transistor Package, Body 1.625 x 2.9 mm, Pitch 0.95 mm; Supplier 1: Mouser; Supplier Part Number 1: N/A; Mounting Technology: Surface Mount; Code_JEDEC: MO-178; ComponentLink1Description: Manufacturer URL; ComponentLink1URL: http://www.maximintegrated.com/; ComponentLink2Description: Datasheet; ComponentLink2URL: http://datasheets.maximintegrated.com/en/ds/MAX6625-MAX6626.pdf; ComponentLink3Description: Package Specification; ComponentLink3URL: http://pdfserv.maximintegrated.com/package_dwgs/21-0058.PDF
footprint MAXM-U6F-6_N (SOT23, 6-Leads, Body 2.9x1.625mm, Pitch 0.95mm, IPC Medium Density)
footprint MAXM-U6F-6_L (SOT23, 6-Leads, Body 2.9x1.625mm, Pitch 0.95mm, IPC High Density)
footprint MAXM-U6F-6_M (SOT23, 6-Leads, Body 2.9x1.625mm, Pitch 0.95mm, IPC Low Density)
pins: 1 SDA (io) "I2C-Compatible Serial Bidirectional Data Line", 2 GND (power) "Power-Supply Ground", 3 SCL (in) "I2C-Compatible Clock Input", 4 OT (oc) "Temperature Alarm Output", 5 ADD (in) "I2C-Compatible Address Set Pin: Ground (0), VS (1), SDA (2), SCL (3); see Table 1.", 6 VS (power) "Power-Supply Input, +3V to +5.5V. Bypass VS to GND with a 0.1µF capacitor"

## MAX6626PMUT-T
designator U?
Temperature Sensor with I2C Interface, 12 Bits Temperature Resolution, -55 to 125 degC, 6-Pin SOT23 (U6F-6), Tape and Reel; Generic Part Number: MAX6626; PartNumber: MAX6626PMUT-T; Alarm Output: Overt; Interface: 2-Wire/I2C/SMBus; Multi Droppable: Yes; Parasite Pwr.: No; DatasheetVersion: Rev. 5; PackageVersion: Rev. N, 08/2012; PackageReference: U6F-6; PackageDescription: 6-Pin Small-Outline Transistor Package, Body 1.625 x 2.9 mm, Pitch 0.95 mm; Supplier 1: Mouser; Supplier Part Number 1: N/A; Packing: Tape and Reel; Mounting Technology: Surface Mount; Code_JEDEC: MO-178; ComponentLink1Description: Manufacturer URL; ComponentLink1URL: http://www.maximintegrated.com/; ComponentLink2Description: Datasheet; ComponentLink2URL: http://datasheets.maximintegrated.com/en/ds/MAX6625-MAX6626.pdf; ComponentLink3Description: Package Specification; ComponentLink3URL: http://pdfserv.maximintegrated.com/package_dwgs/21-0058.PDF
footprint MAXM-U6F-6_N (SOT23, 6-Leads, Body 2.9x1.625mm, Pitch 0.95mm, IPC Medium Density)
footprint MAXM-U6F-6_L (SOT23, 6-Leads, Body 2.9x1.625mm, Pitch 0.95mm, IPC High Density)
footprint MAXM-U6F-6_M (SOT23, 6-Leads, Body 2.9x1.625mm, Pitch 0.95mm, IPC Low Density)
pins: 1 SDA (io) "I2C-Compatible Serial Bidirectional Data Line", 2 GND (power) "Power-Supply Ground", 3 SCL (in) "I2C-Compatible Clock Input", 4 OT (oc) "Temperature Alarm Output", 5 ADD (in) "I2C-Compatible Address Set Pin: Ground (0), VS (1), SDA (2), SCL (3); see Table 1.", 6 VS (power) "Power-Supply Input, +3V to +5.5V. Bypass VS to GND with a 0.1µF capacitor"

## MAX6626RMTT+
designator U?
Temperature Sensor with I2C Interface, 12 Bits Temperature Resolution, -55 to 125 degC, 6-Pin SON (T633+2), Pb-Free; Generic Part Number: MAX6626; PartNumber: MAX6626RMTT+; Alarm Output: Overt; Interface: 2-Wire/I2C/SMBus; Multi Droppable: Yes; Parasite Pwr.: No; DatasheetVersion: Rev. 5; PackageVersion: Rev. J, 08/2009; PackageReference: T633+2; PackageDescription: 6-Pin Plastic Very Very Thin Dual Flatpack No Leads, Exposed Pad, Body 3 x 3 mm, Exposed Pad 2.3 x 1.5 mm, Pitch 0.95 mm; Supplier 1: Mouser; Supplier Part Number 1: N/A; Mounting Technology: Surface Mount; Code_JEDEC: MO-229; ComponentLink1Description: Manufacturer URL; ComponentLink1URL: http://www.maximintegrated.com/; ComponentLink2Description: Datasheet; ComponentLink2URL: http://datasheets.maximintegrated.com/en/ds/MAX6625-MAX6626.pdf; ComponentLink3Description: Package Specification; ComponentLink3URL: http://pdfserv.maximintegrated.com/package_dwgs/21-0137.PDF
footprint MAXM-T633+2_V (SON, 6-Leads, Body 3x3mm, Pitch 0.95mm, Thermal Pad 2.3X1.5mm)
pins: 1 SDA (io) "I2C-Compatible Serial Bidirectional Data Line", 2 GND (power) "Power-Supply Ground", 3 SCL (in) "I2C-Compatible Clock Input", 4 OT (out) "Temperature Alarm Output", 5 ADD (in) "I2C-Compatible Address Set Pin: Ground (0), VS (1), SDA (2), SCL (3); see Table 1.", 6 VS (power) "Power-Supply Input, +3V to +5.5V. Bypass VS to GND with a 0.1µF capacitor", 7 EP (power) "Exposed Paddle. Internally connected to GND. Connect to a large ground plane for maximum thermal dissipation."